# Altium schematic symbol library XZCMEDGCBD110W.SchLib: 1 symbol
Pins are listed as number, name and electrical type; pins without a type are passive.

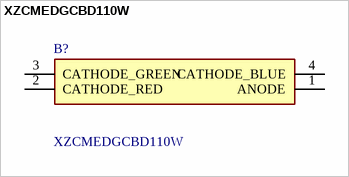
[diagram p0: symbol XZCMEDGCBD110W]

## XZCMEDGCBD110W
designator B?
1.6X1.6MM LC RGB FULL COLOR SMD; Manufacturer_Name: SunLED; Geometry.Height: 0.9mm; Manufacturer_Part_Number: XZCMEDGCBD110W; Mouser Part Number: *; Mouser Price/Stock: *; Arrow Part Number: *; Arrow Price/Stock: *; Datasheet Link: https://datasheet.datasheetarchive.com/originals/distributors/Datasheets_SAMA/921e2c0f8f22089a11c16abc1ce25469.pdf
footprint XZCMEDGCBD110W
pins: 1 ANODE, 2 CATHODE_RED, 3 CATHODE_GREEN, 4 CATHODE_BLUE